# EAGLE library part RELAY-CPC1907B (library Relay_CPC1907B)
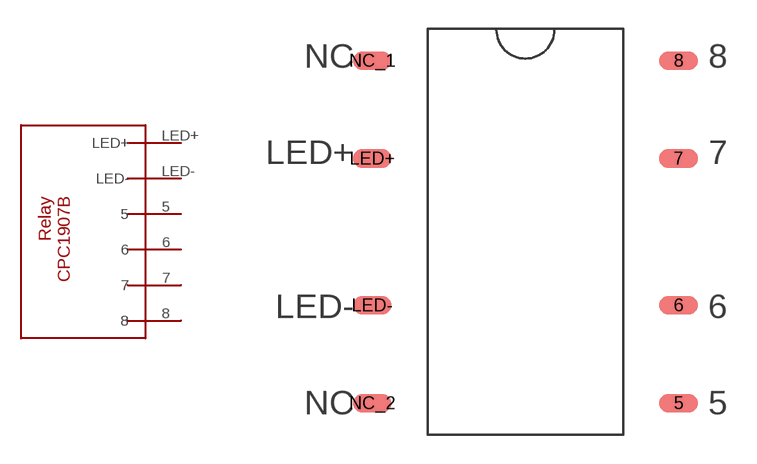
[diagram p0: symbol with the pads of RELAY-CPC1907B; footprint RELAY-CPC1907B]

Designator prefix -

## RELAY-CPC1907B  [RELAY-CPC1907B]
5  5
6  6
7  7
8  8
LED+  LED+
LED-  LED-

## Footprint RELAY-CPC1907B (pad centres in mm)
smd 2 x 0.95: 5 7.95,-8.891; 6 7.95,-3.809; 7 7.95,3.811; 8 7.95,8.891; LED+ -7.95,3.811; LED- -7.95,-3.811; NC_1 -7.95,8.891; NC_2 -7.95,-8.891